# Altium schematic symbol library HD06-T.SchLib: 1 symbol
Pins are listed as number, name and electrical type; pins without a type are passive.

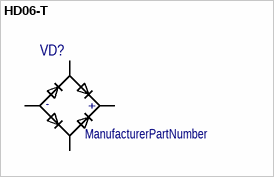
[diagram p0: symbol HD06-T]

## HD06-T
designator VD?  (value not drawn)
ManufacturerPartNumber: ManufacturerPartNumber
pins: +, -, IN1, IN2